# EAGLE library part SLIDESWITCH (library PowerTechLIB2)
PowerTech Switch Smd slide switch used in PowerTech stuff MSS22D18
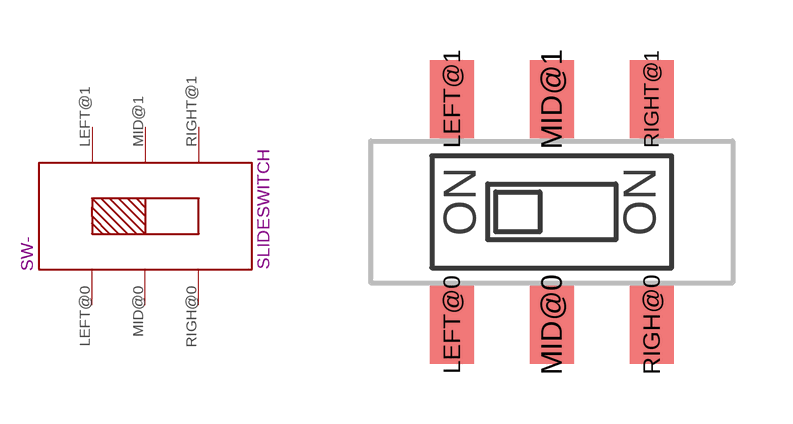
[diagram p9: symbol with the pads of SLIDE-SMD; footprint SLIDE-SMD]

Designator prefix SW-

## SLIDESWITCH-ONON  [SLIDE-SMD]
LEFT@0  LEFT
LEFT@1  LEFT
MID@0  MID
MID@1  MID
RIGH@0  RIGHT
RIGHT@1  RIGHT

## Footprint SLIDE-SMD (pad centres in mm)
smd 1.1 x 1.95: LEFT@0 -2.5,-2.825; LEFT@1 -2.5,2.825; MID@0 0,-2.825; MID@1 0,2.825; RIGH@0 2.5,-2.825; RIGHT@1 2.5,2.825